# Altium schematic symbol library RS40X.SchLib: 1 symbol
Pins are listed as number, name and electrical type; pins without a type are passive.

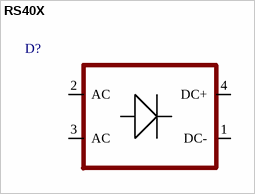
[diagram p0: symbol RS40X]

## RS40X
designator D?
footprint RS40X
pins: 1 DC-, 2 AC, 3 AC, 4 DC+